# Altium footprint library Eagle_WE-XTAL (rev21c) v1.PCBLIB: 18 footprints (part 2 of 2)
Each footprint in its own frame and in the unit in brackets; x right, y up, seen from the top. Pads: shape width x height; smd on the part's side, far side on the other; paste and mask are expansions set on the pad; w line width, h text height; cw(c..) or ccw(c..) is an arc to the next point about the centre after c.
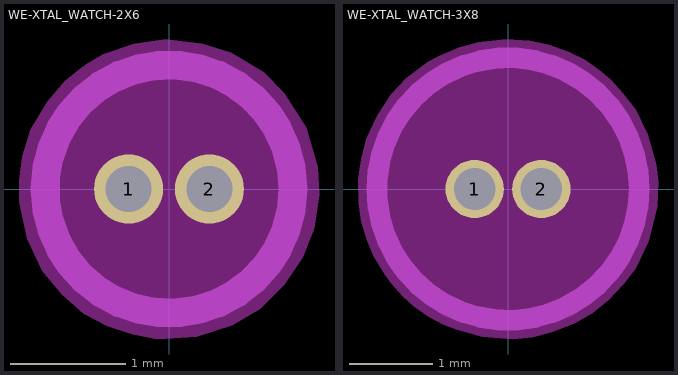
[diagram p1: the footprints below, top view; thin cyan lines are the x and y axes]

## WE-XTAL_WATCH-2X6 [mm]
pads (2):
  round 0.6 hole 0.4: 1(-0.35,0) 2(0.35,0)
Top keep-out:
  region: -0.32,-1.26 -0.1,-1.3 0.24,-1.28 0.55,-1.18 0.79,-1.04 1,-0.83 1.16,-0.59 1.26,-0.34 1.3,-0.05 1.29,0.19 1.19,0.53 1,0.83 0.82,1.01 0.54,1.18 0.29,1.26 -0.03,1.3 -0.3,1.26 -0.57,1.17 -0.716,1.083 -0.716,1.081 -0.73,1.07 -0.742,1.058 -0.746,1.058 -0.9,0.94 -1.05,0.76 -1.2,0.52 -1.27,0.28 -1.3,0.07 -1.3,-0.11 -1.23,-0.43 -1.1,-0.71 -0.93,-0.91 -0.74,-1.08 -0.53,-1.19
tDocu:
  circle w0.1: c0,0 r1
tPlace:
  circle w0.2: c0,0 r1.1

## WE-XTAL_WATCH-3X8 [mm]
pads (2):
  round 0.7 hole 0.5: 1(-0.4,0) 2(0.4,0)
Top keep-out:
  region: -0.31,-1.77 0.06,-1.8 0.3,-1.78 0.52,-1.72 0.79,-1.62 1.01,-1.49 1.21,-1.33 1.39,-1.14 1.53,-0.95 1.69,-0.62 1.79,-0.21 1.8,0.09 1.78,0.29 1.68,0.65 1.53,0.95 1.38,1.15 1.23,1.31 1.09,1.43 0.92,1.55 0.72,1.65 0.49,1.73 0.26,1.78 -0.03,1.8 -0.36,1.76 -0.58,1.7 -0.82,1.6 -0.97,1.52 -1,1.5 -1.22,1.33 -1.4,1.14 -1.57,0.88 -1.7,0.6 -1.76,0.36 -1.8,0.12 -1.79,-0.17 -1.76,-0.39 -1.69,-0.62 -1.61,-0.81 -1.48,-1.02 -1.4,-1.13 -1.26,-1.29 -1.13,-1.41 -0.95,-1.53 -0.77,-1.63 -0.61,-1.69
tDocu:
  circle w0.1: c0,0 r1.5
tPlace:
  circle w0.2: c0,0 r1.6